# EAGLE library part MS560702BA03-50 (library MS560702BA03-50)
BAROMETRIC PRESSURE SENSOR
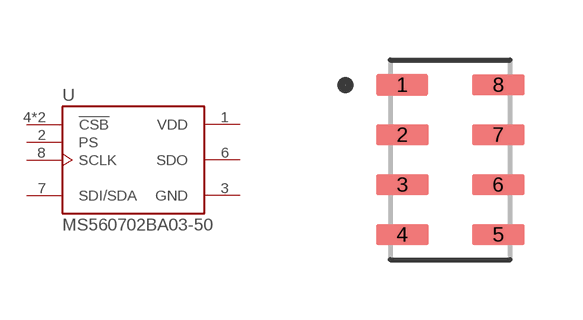
[diagram p0: symbol with the pads of SON125P300X500X100-8N; footprint SON125P300X500X100-8N]

Designator prefix U

## MS560702BA03-50 (Comment: MS560702BA03-50; Description: MS5607-02BA03 Series 3 V 1 to 120 kPa Absolute Barometric Pressure Sensor; Digi-Key_Part_Number: 223-1198-1-ND; Digi-Key_Purchase_URL: https://www.digikey.com/product-detail/en/te-connectivity-measurement-specialties/MS560702BA03-50/223-1198-1-ND/4700921?utm_source=snapeda&utm_medium=aggregator&utm_campaign=symbol; EU_RoHS_Compliance: Compliant; MF: TE Connectivity; MP: MS560702BA03-50; Package: SMD-8 TE Connectivity; TE_purchase_URL: https://www.te.com/usa-en/product-MS560702BA03-50.html?te_bu=Cor&te_type=disp&te_campaign=seda_glo_cor-seda-global-disp-prtnr-fy19-seda-model-bom-cta_sma-317_1&elqCampaignId=32493)  [SON125P300X500X100-8N]
1  VDD  pwr
2  PS  in
3  GND  pwr
4  !CSB  in
5  !CSB  in
6  SDO  out
7  SDI/SDA
8  SCLK  in

## Footprint SON125P300X500X100-8N (pad centres in mm)
smd 1.31 x 0.53: 1 -1.2,1.875; 2 -1.2,0.625; 3 -1.2,-0.625; 4 -1.2,-1.875; 5 1.2,-1.875; 6 1.2,-0.625; 7 1.2,0.625; 8 1.2,1.875